# Altium footprint library Resistors.PcbLib: 28 footprints (part 1 of 2)
Each footprint in its own frame and in the unit in brackets; x right, y up, seen from the top. Pads: shape width x height; smd on the part's side, far side on the other; paste and mask are expansions set on the pad; w line width, h text height; cw(c..) or ccw(c..) is an arc to the next point about the centre after c.
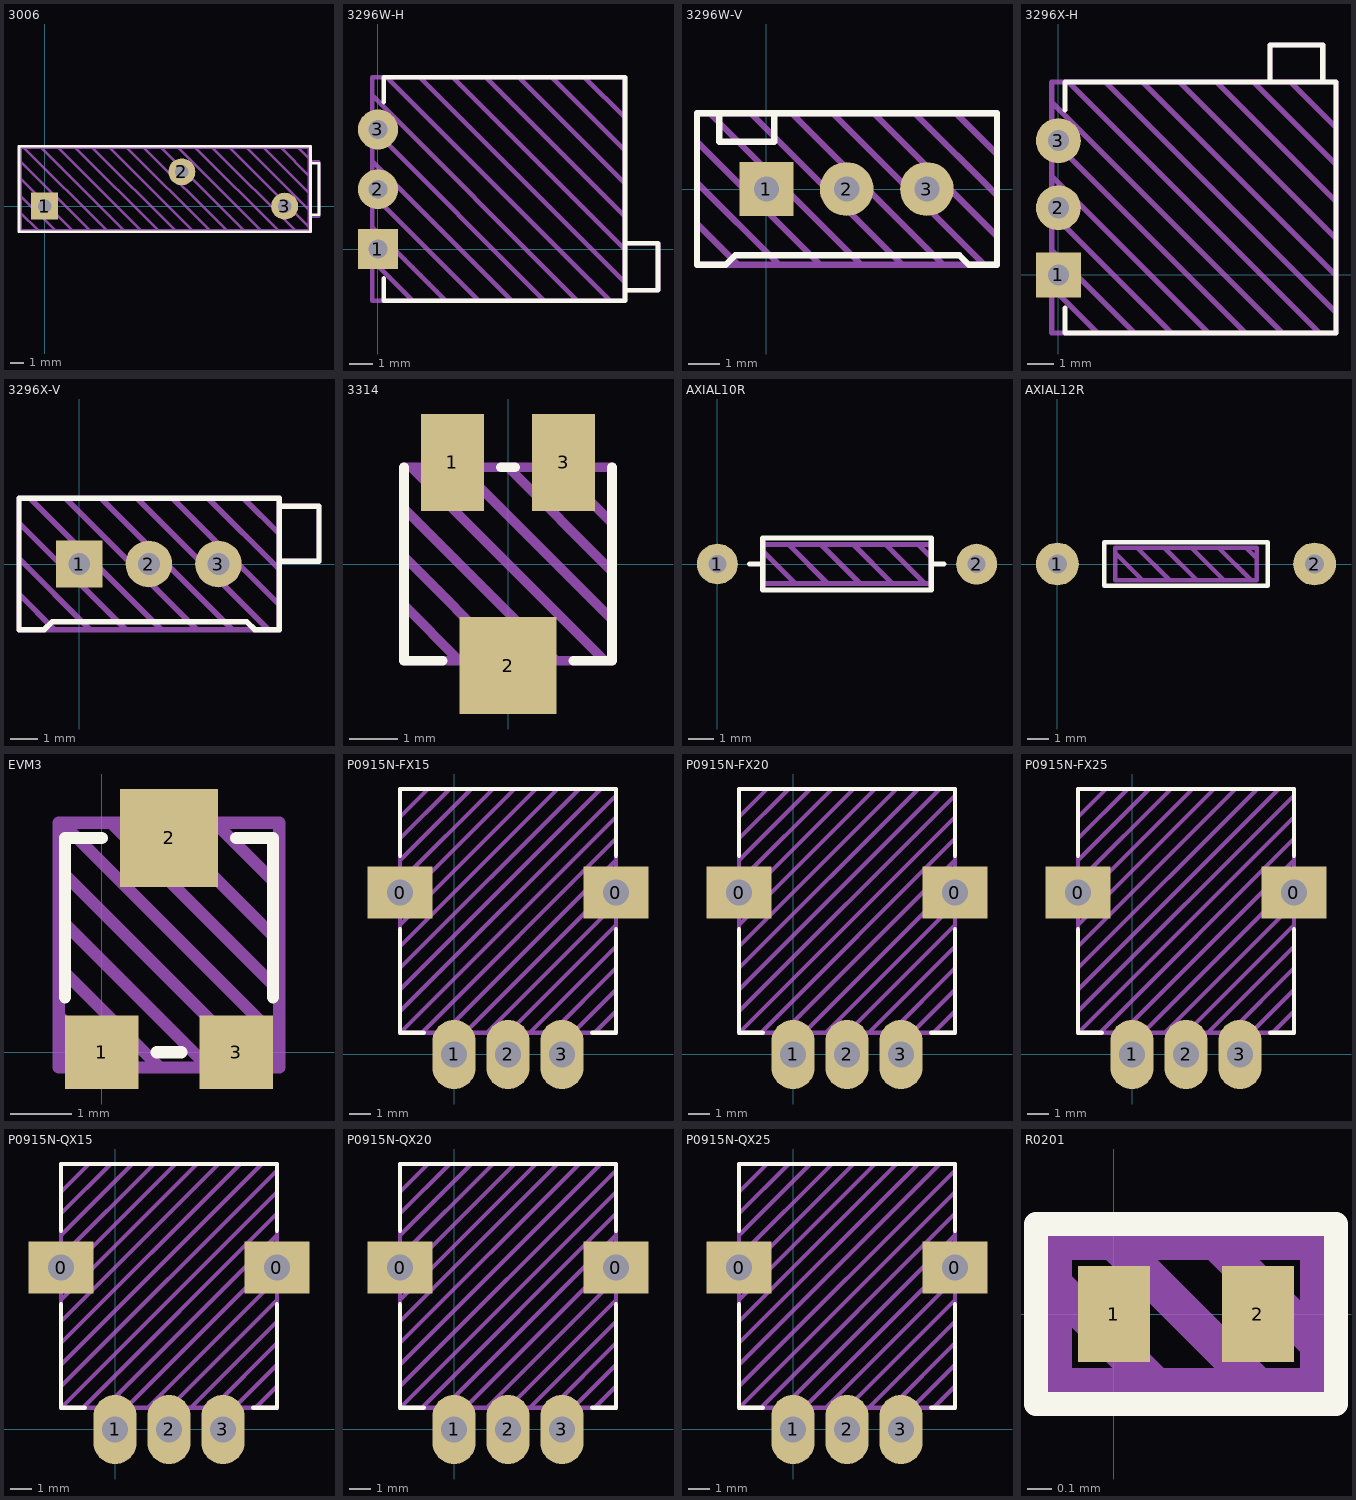
[diagram p0: the footprints below, top view; thin cyan lines are the x and y axes]

## 3006 [mm]
pads (3):
  rect 2x2 hole 1: 1(0,0)
  round 2 hole 1: 2(10.16,2.54) 3(17.78,0)
Top Overlay:
  lines w0.2: 19.685,-0.635 20.32,-0.635 20.32,3.175 19.685,3.175 ; -1.905,-1.905 -1.905,4.445 19.685,4.445 19.685,-1.905 -1.905,-1.905
Top Draw:
  lines w0.2: -1.778,-0.508 -0.508,-1.778 ; -1.778,0.762 0.762,-1.778 ; -1.778,2.032 2.032,-1.778 ; -1.778,3.302 3.302,-1.778 3.556,-1.778 ; -1.524,4.318 4.572,-1.778 ; -0.254,4.318 5.842,-1.778 ; 1.016,4.318 7.112,-1.778 7.366,-1.778 ; 2.286,4.318 8.382,-1.778 8.89,-1.778 ; 3.556,4.318 9.652,-1.778 ; 4.826,4.318 10.922,-1.778 ; 6.096,4.318 12.192,-1.778 ; 7.366,4.318 13.462,-1.778 ; 8.636,4.318 14.732,-1.778 ; 9.906,4.318 16.002,-1.778 ; 11.176,4.318 17.272,-1.778 ; 12.446,4.318 18.542,-1.778 ; 13.716,4.318 19.558,-1.524 ; 14.986,4.318 19.558,-0.254 ; 16.256,4.318 19.558,1.016 ; 17.526,4.318 19.558,2.286 19.558,2.032 ; 18.796,4.318 19.558,3.556 ; 19.558,-0.762 20.32,-0.762 20.32,3.302 19.558,3.302 ; -1.778,-1.778 19.558,-1.778 19.558,4.318 -1.778,4.318 -1.778,-1.778
Top Info:
  text "'.Comment'" at 2.927,-4.075 h1.5
3D body: height 0.25, standoff 0, extent 18.796,-1.778 19.685,4.318
3D body: height 5.7, standoff 3.3, extent 19.6,0.07 20.6,2.47
3D body: height 6.35, standoff 0.25, extent -1.778,-1.778 19.685,4.318
3D body: height -1, standoff -3, extent -0.402,-0.4 0.398,0.4
3D body: height -1, standoff -3, extent 9.76,2.14 10.56,2.94
3D body: height -1, standoff -3, extent 17.38,-0.4 18.18,0.4
3D body: height 0.25, standoff 0, extent -1.778,-1.778 -0.889,4.318
3D body: height 5.69, standoff 3.31, extent 20.6,1.369 20.8,2.467
3D body: height 5.69, standoff 3.31, extent 20.6,0.072 20.8,1.171

## 3296W-H [mm]
pads (3):
  rect 1.7x1.7 hole 0.8: 1(0,0)
  round 1.7 hole 0.8: 2(0,2.54) 3(0,5.08)
Top Overlay:
  lines w0.2: 0.25,-1.25 0.25,-2.2 10.5,-2.2 10.5,7.3 0.25,7.3 0.25,6.25 ; 10.5,-1.75 11.9,-1.75 11.9,0.25 10.5,0.25
Top Draw:
  lines w0.2: -0.25,-0.475 1.475,-2.2 ; -0.25,0.925 2.875,-2.2 ; -0.25,2.325 4.275,-2.2 ; -0.25,3.725 5.675,-2.2 ; -0.25,5.125 7.075,-2.2 ; -0.25,6.525 8.475,-2.2 ; 0.375,7.3 9.875,-2.2 ; 1.775,7.3 10.5,-1.425 ; 3.175,7.3 10.5,-0.025 ; 4.575,7.3 10.5,1.375 ; 5.975,7.3 10.5,2.775 ; 7.375,7.3 10.5,4.175 ; 8.775,7.3 10.5,5.575 ; 10.5,-1.75 11.9,-1.75 11.9,0.25 10.5,0.25 ; -0.25,-2.2 -0.25,7.3 10.5,7.3 10.5,-2.2 -0.25,-2.2
Top Info:
  text "'.Comment'" at -0.111,-4.029 h1.25
3D body "3296W-H.stp": height 4.8, standoff -2.7, extent -0.25,-2.21 11.9,7.29

## 3296W-V [mm]
pads (3):
  rect 1.7x1.7 hole 0.8: 1(0,0)
  round 1.7 hole 0.8: 2(2.54,0) 3(5.08,0)
Top Overlay:
  lines w0.2: -1.5,2.4 -1.5,1.5 0.25,1.5 0.25,2.4 ; -2.2,-2.4 -1.285,-2.4 -0.985,-2.1 6.11,-2.1 6.41,-2.4 7.3,-2.4 7.3,2.4 -2.2,2.4 -2.2,-2.4
Top Draw:
  lines w0.2: -2.2,-1.1 -0.9,-2.4 ; -2.2,0.2 0.4,-2.4 ; -2.2,1.5 1.7,-2.4 ; -1.8,2.4 3,-2.4 ; -0.5,2.4 4.3,-2.4 ; 0.8,2.4 5.6,-2.4 ; 2.1,2.4 6.9,-2.4 ; 3.4,2.4 7.3,-1.5 ; 4.7,2.4 7.3,-0.2 ; 6,2.4 7.3,1.1 ; -2.2,-2.4 7.3,-2.4 7.3,2.4 -2.2,2.4 -2.2,-2.4
Top Info:
  text "'.Comment'" at -1.749,-3.883 h1
3D body "3296W-V.stp": height 11.5, standoff -2.7, extent -2.21,-2.4 7.29,2.4

## 3296X-H [mm]
pads (3):
  rect 1.7x1.7 hole 0.8: 1(0,0)
  round 1.7 hole 0.8: 2(0,2.54) 3(0,5.08)
Top Overlay:
  lines w0.2: 0.25,-1.25 0.25,-2.2 10.5,-2.2 10.5,7.3 0.25,7.3 0.25,6.25 ; 8,7.3 8,8.7 10,8.7 10,7.3
Top Draw:
  lines w0.2: -0.25,-0.475 1.475,-2.2 ; -0.25,0.925 2.875,-2.2 ; -0.25,2.325 4.275,-2.2 ; -0.25,3.725 5.675,-2.2 ; -0.25,5.125 7.075,-2.2 ; -0.25,6.525 8.475,-2.2 ; 0.375,7.3 9.875,-2.2 ; 1.775,7.3 10.5,-1.425 ; 3.175,7.3 10.5,-0.025 ; 4.575,7.3 10.5,1.375 ; 5.975,7.3 10.5,2.775 ; 7.375,7.3 10.5,4.175 ; 8,7.3 8,8.7 10,8.7 10,7.3 ; 8.775,7.3 10.5,5.575 ; -0.25,-2.2 10.5,-2.2 10.5,7.3 -0.25,7.3 -0.25,-2.2
Top Info:
  text "'.Comment'" at -0.111,-4.029 h1.25
3D body "3296X-H.stp": height 4.8, standoff -2.7, extent -0.25,-2.21 10.4,8.79

## 3296X-V [mm]
pads (3):
  rect 1.7x1.7 hole 0.8: 1(0,0)
  round 1.7 hole 0.8: 2(2.54,0) 3(5.08,0)
Top Overlay:
  lines w0.2: 7.3,0.1 8.75,0.1 8.75,2.1 7.3,2.1 ; -2.2,-2.4 -2.2,2.4 7.3,2.4 7.3,-2.4 6.41,-2.4 6.11,-2.1 -0.985,-2.1 -1.285,-2.4 -2.2,-2.4
Top Draw:
  lines w0.2: -2.2,-1.1 -0.9,-2.4 ; -2.2,0.2 0.4,-2.4 ; -2.2,1.5 1.7,-2.4 ; -1.8,2.4 3,-2.4 ; -0.5,2.4 4.3,-2.4 ; 0.8,2.4 5.6,-2.4 ; 2.1,2.4 6.9,-2.4 ; 3.4,2.4 7.3,-1.5 ; 4.7,2.4 7.3,-0.2 ; 6,2.4 7.3,1.1 ; 7.3,0.1 8.75,0.1 8.75,2.1 7.3,2.1 ; -2.2,-2.4 -2.2,2.4 7.3,2.4 7.3,-2.4 -2.2,-2.4
Top Info:
  text "'.Comment'" at -1.749,-3.883 h1
3D body "3296X-V.stp": height 10, standoff -2.7, extent -2.21,-2.4 8.79,2.4

## 3314 [mm]
pads (3):
  rect 1.3x2 smd: 1(-1.15,2.1) 3(1.15,2.1)
  rect 2x2 smd: 2(0,-2.1)
Top Overlay:
  lines w0.2: -2.15,2 -2.15,-2 -1.35,-2 ; -0.15,2 0.15,2 ; 1.35,-2 2.15,-2 2.15,2
Top Draw:
  lines w0.2: -2.15,-0.85 -1,-2 ; -2.15,0.15 0,-2 ; -2.15,1.15 1,-2 ; -2,2 2,-2 ; -1,2 2.15,-1.15 ; 0,2 2.15,-0.15 ; 1,2 2.15,0.85 ; -2.15,-2 -2.15,2 2.15,2 2.15,-2 -2.15,-2
Top Info:
  text "'.Comment'" at -4.249,-4.583 h1
3D body "3314.step": height 2.55, standoff 0, extent -2.35,-2.65 2.352,2.651

## AXIAL10R [mm]
pads (2):
  round 1.6 hole 0.7: 1(0.001,0.003) 2(10.16,-0.003)
Top Overlay:
  lines w0.2: 1.27,0 1.778,0 ; 8.382,0 8.89,0 ; 1.778,-1.013 3.128,-1.013 6.938,-1.013 8.382,-1.013 8.382,1.019 1.778,1.019 1.778,-1.013
Top Draw:
  lines w0.2: 1.778,0.511 3.048,-0.759 4.318,-0.759 2.794,0.765 4.064,0.765 5.588,-0.759 6.858,-0.759 5.334,0.765 6.604,0.765 8.128,-0.759 ; 7.874,0.765 8.382,0.257 ; 1.778,-0.759 1.778,0.765 8.382,0.765 8.382,-0.759 1.778,-0.759
Top Info:
  text "'.Comment'" at 0.751,-2.883 h1
3D body: height 1.52, standoff -1.78, extent -0.254,-0.254 0.254,0.254
3D body: height 1.78, standoff 1.27, extent 0.001,-0.252 3.811,0.256
3D body: height 1.78, standoff 1.27, extent -0.253,-0.257 0.255,0.251
3D body: height 1.78, standoff 1.27, extent 9.906,-0.257 10.414,0.251
3D body: height 1.78, standoff 1.27, extent 6.35,-0.258 10.16,0.25
3D body: height 1.52, standoff -1.78, extent 9.906,-0.257 10.414,0.251
3D body: height 3.05, standoff 0, extent 6.107,-1.501 9.133,1.519
3D body: height 3.05, standoff 0, extent 1.027,-1.503 4.053,1.516
3D body: height 2.82, standoff 0.23, extent 3.683,-1.292 4.064,1.298
3D body: height 2.82, standoff 0.23, extent 4.445,-1.293 4.826,1.298
3D body: height 2.82, standoff 0.23, extent 5.207,-1.292 5.588,1.298
3D body: height 2.82, standoff 0.23, extent 6.223,-1.293 6.604,1.298
3D body: height 2.79, standoff 0.25, extent 3.175,-1.268 6.985,1.272

## AXIAL12R [mm]
pads (2):
  round 2 hole 0.9: 1(0,0) 2(12,0)
Top Overlay:
  lines w0.2: 2.19,-1.016 4.095,-1.016 7.905,-1.016 9.81,-1.016 9.81,1.016 2.19,1.016 2.19,-1.016
Top Draw:
  lines w0.2: 2.698,0.508 3.968,-0.762 5.238,-0.762 3.714,0.762 4.984,0.762 6.508,-0.762 7.778,-0.762 6.254,0.762 7.524,0.762 9.048,-0.762 ; 8.794,0.762 9.302,0.254 ; 2.698,-0.762 2.698,0.762 9.302,0.762 9.302,-0.762 2.698,-0.762
Top Info:
  text "'.Comment'" at 1.751,-2.883 h1
3D body: height 2.82, standoff 0.23, extent 7.143,-1.302 7.524,1.289
3D body: height 2.82, standoff 0.23, extent 6.127,-1.301 6.508,1.289
3D body: height 2.82, standoff 0.23, extent 5.365,-1.302 5.746,1.289
3D body: height 2.82, standoff 0.23, extent 4.603,-1.302 4.984,1.289
3D body: height 3.05, standoff 0, extent 7.027,-1.51 10.053,1.51
3D body: height 1.52, standoff -1.78, extent 11.765,-0.3 12.365,0.3
3D body: height 1.82, standoff 1.22, extent 8.255,-0.301 12.065,0.299
3D body: height 1.82, standoff 1.22, extent 11.765,-0.3 12.365,0.3
3D body: height 1.82, standoff 1.22, extent -0.3,-0.306 0.3,0.294
3D body: height 1.82, standoff 1.22, extent 0,-0.3 3.81,0.3
3D body: height 1.52, standoff -1.78, extent -0.301,-0.303 0.299,0.297
3D body: height 3.05, standoff 0, extent 1.947,-1.513 4.973,1.507
3D body: height 2.79, standoff 0.25, extent 4.07,-1.278 7.88,1.262

## EVM3 [mm]
pads (3):
  rect 1.2x1.2 smd: 1(0,0) 3(2.2,0)
  rect 1.6x1.6 smd: 2(1.1,3.5)
Top Overlay:
  lines w0.2: -0.6,0.9 -0.6,3.5 0,3.5 ; 0.9,0 1.3,0 ; 2.2,3.5 2.8,3.5 2.8,0.9
Top Draw:
  lines w0.2: -0.7,0.6 0.125,-0.225 ; -0.7,1.4 0.95,-0.25 1.3,-0.25 ; -0.7,2.2 1.75,-0.25 2,-0.25 ; -0.7,3 2.55,-0.25 ; -0.6,3.7 2.9,0.2 ; 0.2,3.7 2.9,1 2.9,0.2 ; 1,3.7 2.9,1.8 2.9,1.2 ; 1.9,3.7 2.9,2.7 2.9,2.1 ; 2.9,-0.25 -0.7,-0.25 -0.7,3.75 2.9,3.75 2.9,-0.25 ; 2.9,-0.25 2.9,0.2
Top Info:
  text "'.Comment'" at -0.981,-1.435 h0.5
3D body "EVM-3E.STEP": height 1.62, standoff 0, extent -0.45,-0.15 2.65,3.65

## P0915N-FX15 [mm] "Model P09x Series Potentiometer"
pads (5):
  rect 3x2.4 hole 1.2 square: 0(-2.5,7.5) 0(7.5,7.5)
  oval 2x3.2 hole 1.2: 1(0,0) 2(2.5,0) 3(5,0)
Top Overlay:
  lines w0.2: -2.5,5.8 -2.5,1 -1.4,1 ; -2.5,9.2 -2.5,12.3 7.5,12.3 7.5,9.2 ; 6.4,1 7.5,1 7.5,5.8
Top Draw:
  lines w0.2: -2.5,2 7.5,12 ; -2.5,3 6.8,12.3 ; -2.5,4 5.8,12.3 ; -2.5,5 4.8,12.3 ; -2.5,6 3.8,12.3 ; -2.5,7 2.8,12.3 ; -2.5,8 1.8,12.3 ; -2.5,9 0.8,12.3 ; -2.5,10 -0.2,12.3 ; -2.5,11 -1.2,12.3 ; -1.5,1 7.5,10 ; -0.5,1 7.5,9 ; 0.5,1 7.5,8 ; 1.5,1 7.5,7 ; 2.5,1 7.5,6 ; 3.5,1 7.5,5 ; 4.5,1 7.5,4 ; 5.5,1 7.5,3 ; 6.5,1 7.5,2 ; 7.5,11 -2.5,1 ; -2.5,1 7.5,1 7.5,12.3 -2.5,12.3 -2.5,1
Top Info:
  text "'.Comment'" at -2.811,-3.429 h1.25
3D body "P0915x-Fx15.step": height 25, standoff -3.3, extent -3.548,-0.15 8.548,12.35

## P0915N-FX20 [mm] "Model P09x Series Potentiometer"
pads (5):
  rect 3x2.4 hole 1.2 square: 0(-2.5,7.5) 0(7.5,7.5)
  oval 2x3.2 hole 1.2: 1(0,0) 2(2.5,0) 3(5,0)
Top Overlay:
  lines w0.2: -2.5,5.8 -2.5,1 -1.4,1 ; -2.5,9.2 -2.5,12.3 7.5,12.3 7.5,9.2 ; 6.4,1 7.5,1 7.5,5.8
Top Draw:
  lines w0.2: -2.5,2 7.5,12 ; -2.5,3 6.8,12.3 ; -2.5,4 5.8,12.3 ; -2.5,5 4.8,12.3 ; -2.5,6 3.8,12.3 ; -2.5,7 2.8,12.3 ; -2.5,8 1.8,12.3 ; -2.5,9 0.8,12.3 ; -2.5,10 -0.2,12.3 ; -2.5,11 -1.2,12.3 ; -1.5,1 7.5,10 ; -0.5,1 7.5,9 ; 0.5,1 7.5,8 ; 1.5,1 7.5,7 ; 2.5,1 7.5,6 ; 3.5,1 7.5,5 ; 4.5,1 7.5,4 ; 5.5,1 7.5,3 ; 6.5,1 7.5,2 ; 7.5,11 -2.5,1 ; -2.5,1 7.5,1 7.5,12.3 -2.5,12.3 -2.5,1
Top Info:
  text "'.Comment'" at -2.811,-3.429 h1.25
3D body "P0915x-Fx20.step": height 30, standoff -3.3, extent -3.548,-0.15 8.548,12.35

## P0915N-FX25 [mm] "Model P09x Series Potentiometer"
pads (5):
  rect 3x2.4 hole 1.2 square: 0(-2.5,7.5) 0(7.5,7.5)
  oval 2x3.2 hole 1.2: 1(0,0) 2(2.5,0) 3(5,0)
Top Overlay:
  lines w0.2: -2.5,5.8 -2.5,1 -1.4,1 ; -2.5,9.2 -2.5,12.3 7.5,12.3 7.5,9.2 ; 6.4,1 7.5,1 7.5,5.8
Top Draw:
  lines w0.2: -2.5,2 7.5,12 ; -2.5,3 6.8,12.3 ; -2.5,4 5.8,12.3 ; -2.5,5 4.8,12.3 ; -2.5,6 3.8,12.3 ; -2.5,7 2.8,12.3 ; -2.5,8 1.8,12.3 ; -2.5,9 0.8,12.3 ; -2.5,10 -0.2,12.3 ; -2.5,11 -1.2,12.3 ; -1.5,1 7.5,10 ; -0.5,1 7.5,9 ; 0.5,1 7.5,8 ; 1.5,1 7.5,7 ; 2.5,1 7.5,6 ; 3.5,1 7.5,5 ; 4.5,1 7.5,4 ; 5.5,1 7.5,3 ; 6.5,1 7.5,2 ; 7.5,11 -2.5,1 ; -2.5,1 -2.5,12.3 7.5,12.3 7.5,1 -2.5,1
Top Info:
  text "'.Comment'" at -2.811,-3.429 h1.25
3D body "P0915x-Fx25.step": height 35, standoff -3.3, extent -3.548,-0.15 8.548,12.35

## P0915N-QX15 [mm] "Model P09x Series Potentiometer"
pads (5):
  rect 3x2.4 hole 1.2 square: 0(-2.5,7.5) 0(7.5,7.5)
  oval 2x3.2 hole 1.2: 1(0,0) 2(2.5,0) 3(5,0)
Top Overlay:
  lines w0.2: -2.5,5.8 -2.5,1 -1.4,1 ; -2.5,9.2 -2.5,12.3 7.5,12.3 7.5,9.2 ; 6.4,1 7.5,1 7.5,5.8
Top Draw:
  lines w0.2: -2.5,2 7.5,12 ; -2.5,3 6.8,12.3 ; -2.5,4 5.8,12.3 ; -2.5,5 4.8,12.3 ; -2.5,6 3.8,12.3 ; -2.5,7 2.8,12.3 ; -2.5,8 1.8,12.3 ; -2.5,9 0.8,12.3 ; -2.5,10 -0.2,12.3 ; -2.5,11 -1.2,12.3 ; -1.5,1 7.5,10 ; -0.5,1 7.5,9 ; 0.5,1 7.5,8 ; 1.5,1 7.5,7 ; 2.5,1 7.5,6 ; 3.5,1 7.5,5 ; 4.5,1 7.5,4 ; 5.5,1 7.5,3 ; 6.5,1 7.5,2 ; 7.5,11 -2.5,1 ; -2.5,1 -2.5,12.3 7.5,12.3 7.5,1 -2.5,1
Top Info:
  text "'.Comment'" at -2.811,-3.429 h1.25
3D body "P0915x-Qx15.step": height 25, standoff -3.3, extent -3.548,-0.15 8.548,12.35

## P0915N-QX20 [mm] "Model P09x Series Potentiometer"
pads (5):
  rect 3x2.4 hole 1.2 square: 0(-2.5,7.5) 0(7.5,7.5)
  oval 2x3.2 hole 1.2: 1(0,0) 2(2.5,0) 3(5,0)
Top Overlay:
  lines w0.2: -2.5,5.8 -2.5,1 -1.4,1 ; -2.5,9.2 -2.5,12.3 7.5,12.3 7.5,9.2 ; 6.4,1 7.5,1 7.5,5.8
Top Draw:
  lines w0.2: -2.5,2 7.5,12 ; -2.5,3 6.8,12.3 ; -2.5,4 5.8,12.3 ; -2.5,5 4.8,12.3 ; -2.5,6 3.8,12.3 ; -2.5,7 2.8,12.3 ; -2.5,8 1.8,12.3 ; -2.5,9 0.8,12.3 ; -2.5,10 -0.2,12.3 ; -2.5,11 -1.2,12.3 ; -1.5,1 7.5,10 ; -0.5,1 7.5,9 ; 0.5,1 7.5,8 ; 1.5,1 7.5,7 ; 2.5,1 7.5,6 ; 3.5,1 7.5,5 ; 4.5,1 7.5,4 ; 5.5,1 7.5,3 ; 6.5,1 7.5,2 ; 7.5,11 -2.5,1 ; -2.5,1 7.5,1 7.5,12.3 -2.5,12.3 -2.5,1
Top Info:
  text "'.Comment'" at -2.811,-3.429 h1.25
3D body "P0915x-Qx20.step": height 30, standoff -3.3, extent -3.548,-0.15 8.548,12.35

## P0915N-QX25 [mm] "Model P09x Series Potentiometer"
pads (5):
  rect 3x2.4 hole 1.2 square: 0(-2.5,7.5) 0(7.5,7.5)
  oval 2x3.2 hole 1.2: 1(0,0) 2(2.5,0) 3(5,0)
Top Overlay:
  lines w0.2: -2.5,5.8 -2.5,1 -1.4,1 ; -2.5,9.2 -2.5,12.3 7.5,12.3 7.5,9.2 ; 6.4,1 7.5,1 7.5,5.8
Top Draw:
  lines w0.2: -2.5,2 7.5,12 ; -2.5,3 6.8,12.3 ; -2.5,4 5.8,12.3 ; -2.5,5 4.8,12.3 ; -2.5,6 3.8,12.3 ; -2.5,7 2.8,12.3 ; -2.5,8 1.8,12.3 ; -2.5,9 0.8,12.3 ; -2.5,10 -0.2,12.3 ; -2.5,11 -1.2,12.3 ; -1.5,1 7.5,10 ; -0.5,1 7.5,9 ; 0.5,1 7.5,8 ; 1.5,1 7.5,7 ; 2.5,1 7.5,6 ; 3.5,1 7.5,5 ; 4.5,1 7.5,4 ; 5.5,1 7.5,3 ; 6.5,1 7.5,2 ; 7.5,11 -2.5,1 ; -2.5,1 7.5,1 7.5,12.3 -2.5,12.3 -2.5,1
Top Info:
  text "'.Comment'" at -2.811,-3.429 h1.25
3D body "P0915x-Qx25.step": height 35, standoff -3.3, extent -3.548,-0.15 8.548,12.35

## R0201 [mm]
height 0.3
pads (2):
  rect 0.3x0.4 smd: 1(0,0) 2(0.6,0)
Top Overlay:
  lines w0.1: -0.325,-0.375 -0.325,0.375 0.925,0.375 0.925,-0.375 -0.325,-0.375
Top Draw:
  lines w0.15: -0.25,0.125 0.175,-0.3 ; 0,0.3 0.6,-0.3 ; 0.425,0.3 0.85,-0.125 ; -0.25,-0.3 0.85,-0.3 0.85,0.3 -0.25,0.3 -0.25,-0.3
Top Info:
  text "'.Comment'" at -0.762,-0.771 h0.25
3D body "Chip2PinSM127P600-8N.step": height 0.25, standoff 0, extent 0,-0.15 0.6,0.15